# Altium footprint library WA-SMSI.PcbLib: 2 footprints
Each footprint in its own frame and in the unit in brackets; x right, y up, seen from the top. Pads: shape width x height; smd on the part's side, far side on the other; paste and mask are expansions set on the pad; w line width, h text height; cw(c..) or ccw(c..) is an arc to the next point about the centre after c.
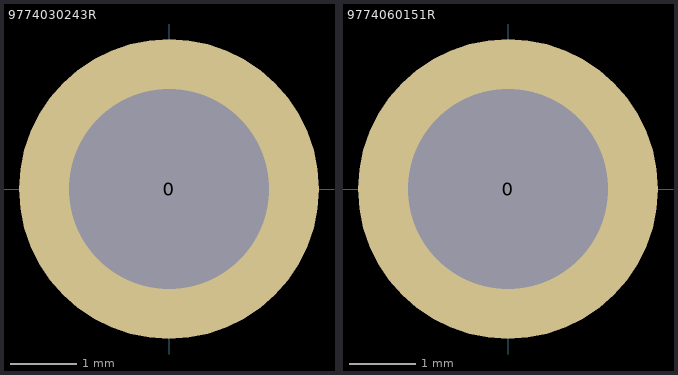
[diagram p0: the footprints below, top view; thin cyan lines are the x and y axes]

## 9774030243R [mm] "ROUND STANDOFF M2X0.4 STEEL 3MM"
height 3
pads (1):
  round 4.5 hole 3: 0(0,0)
3D body "9774030243R+(rev1).stp": height 3, standoff -1.4, extent -2.175,-2.163 2.175,2.163

## 9774060151R [mm] "ROUND STANDOFF M2X0.4 STEEL 6MM"
height 6
pads (1):
  round 4.5 hole 3: 0(0,0)
3D body "9774060243R+(rev1).stp": height 6, standoff -1.4, extent -2.175,-2.163 2.175,2.163